# EAGLE library part GD25Q16CEIG_USON8_3X2MM (library FLASH_GD25Q16CEIG_2)
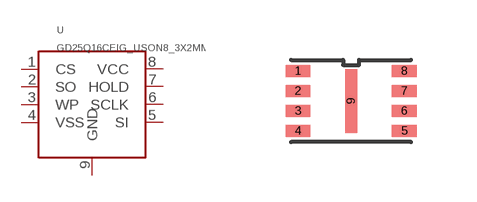
[diagram p0: symbol with the pads of GD25Q16CEIG_USON8_3X2MM; footprint GD25Q16CEIG_USON8_3X2MM]

Designator prefix U

## GD25Q16CEIG_USON8_3X2MM  [GD25Q16CEIG_USON8_3X2MM]
1  CS
2  SO
3  WP
4  VSS
5  SI
6  SCLK
7  HOLD
8  VCC
9  GND

## Footprint GD25Q16CEIG_USON8_3X2MM (pad centres in mm)
smd 0.65 x 0.3: 1 -1.33,0.75; 2 -1.33,0.25; 3 -1.33,-0.25; 4 -1.33,-0.75; 5 1.33,-0.75; 6 1.33,-0.25; 7 1.33,0.25; 8 1.33,0.75
smd 0.3 x 1.6: 9 0,0